# Altium footprint library PcbLib1.PcbLib: 19 footprints (part 2 of 2)
Each footprint in its own frame and in the unit in brackets; x right, y up, seen from the top. Pads: shape width x height; smd on the part's side, far side on the other; paste and mask are expansions set on the pad; w line width, h text height; cw(c..) or ccw(c..) is an arc to the next point about the centre after c.
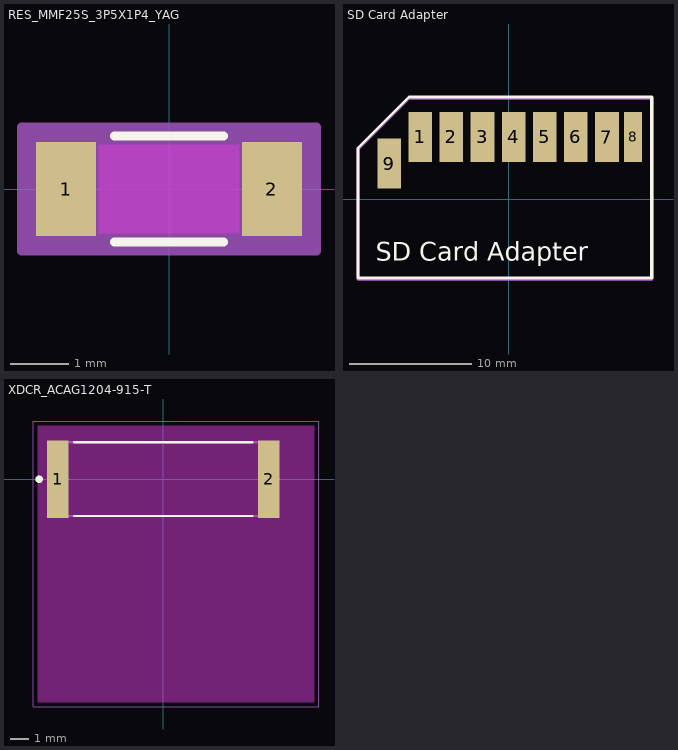
[diagram p1: the footprints below, top view; thin cyan lines are the x and y axes]

## RES_MMF25S_3P5X1P4_YAG [mil]
pads (2):
  rect 40x63 smd paste+0 mask+0: 1(-69,0) 2(69,0)
Top Layer keep-out:
  region: -47,-29.5 -47,29.5 47,29.5 47,-29.5
Top Overlay:
  lines w6: -36.53,-35.5 36.53,-35.5 ; -36.53,35.5 36.53,35.5
Mechanical 13:
  lines w1: -73,-15.25 -57.75,-30.5 ; -73,15.25 -57.75,30.5 ; -73,-30.5 73,-30.5 73,30.5 -73,30.5 -73,-30.5
Mechanical 15:
  region: 99,-41.5 -99,-41.5 -99,41.5 99,41.5
  lines w6: -99,-41.5 -99,41.5 99,41.5 99,-41.5 -99,-41.5
3D body "RES_MMF25S_3P5X1P4_YAG.step": height 61.01, standoff 0, extent -72.99,-30.28 72.99,30.28

## SD Card Adapter [mm]
pads (9):
  rect 1.94x4.1 smd: 1(-7.271,5.108) 2(-4.716,5.108) 3(-2.16,5.108) 4(0.395,5.108) 5(2.95,5.108) 6(5.506,5.108) 7(8.061,5.083) 9(-9.826,2.908)
  rect 1.46x4.1 smd: 8(10.204,5.108)
Top Overlay:
  lines w0.254: -12.386,-6.474 11.744,-6.474 11.744,8.385 -8.195,8.385 -12.386,4.194 -12.386,-6.474
  text "SD Card Adapter" at -10.922,-5.08 h1.52
Bottom Overlay:
  lines w0.254: -12.386,-6.728 -12.386,3.94 ; -12.386,-6.601 11.744,-6.601 ; -12.386,4.067 -8.195,8.258 11.744,8.258 ; 11.744,-6.728 11.744,8.131
  text "SD Card Adapter" at 10.795,-4.826 h1.52
Mechanical 1:
  lines w0.254: -12.386,-6.601 11.744,-6.601 11.744,8.258 -8.195,8.258 -12.386,4.067 -12.386,-6.601

## XDCR_ACAG1204-915-T [mm]
height 1.7
pads (2):
  rect 1.15x4.2 smd: 1(-5.725,0) 2(5.725,0)
Top Overlay:
  circle w0.2: c-6.731,0 r0.1
  lines w0.127: -4.837,-2 4.837,-2 ; -4.837,2 4.837,2
Keep-Out Layer:
  region: 8.2,-12.1 -6.8,-12.1 -6.8,2.9 8.2,2.9
  region: 8.2,-12.1 0,-12.1 0,-2.1 6.3,-2.1 6.3,2.1 0,2.1 0,2.9 8.2,2.9
  region: 0,2.1 -6.3,2.1 -6.3,-2.1 0,-2.1 0,-12.1 -6.8,-12.1 -6.8,2.9 0,2.9
Mechanical 13:
  circle w0.2: c-6.731,0 r0.1
  lines w0.127: -6,-2 6,-2 6,2 -6,2 -6,-2
Mechanical 15:
  lines w0.05: -7.05,-12.35 8.45,-12.35 8.45,3.15 -7.05,3.15 -7.05,-12.35
3D body "step_temp.STEP": height 1.6, standoff 0, extent -6,-2 6,2